# Altium schematic symbol library SCH - MCU - STM32 - ST MICROELECTRONICS STM32G051F8YX WLCSP20.SchLib: 1 symbol
Pins are listed as number, name and electrical type; pins without a type are passive.

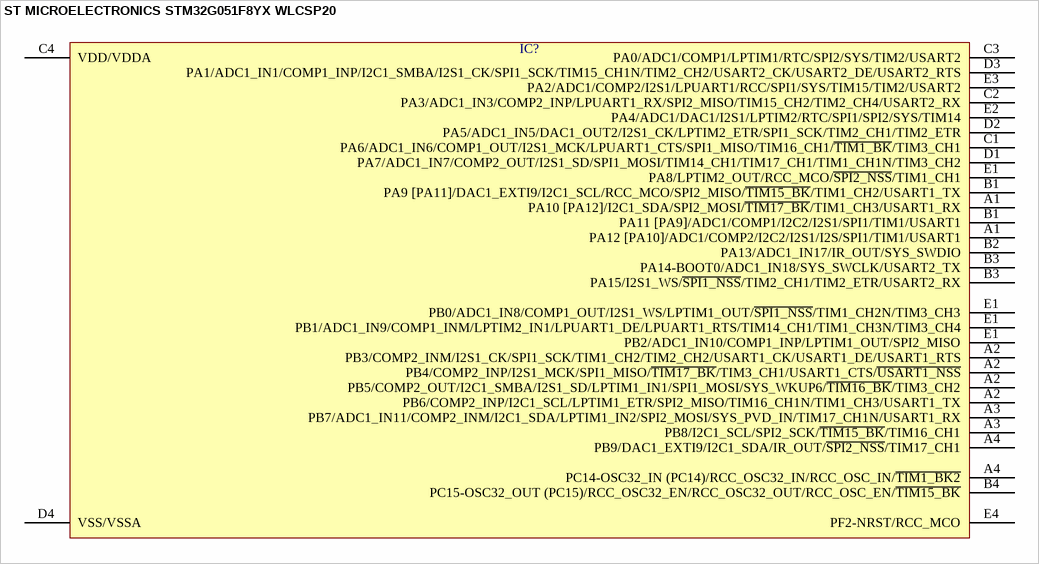
[diagram p0: symbol ST MICROELECTRONICS STM32G051F8YX WLCSP20]

## ST MICROELECTRONICS STM32G051F8YX WLCSP20
designator IC?  (value not drawn)
pins: A1 PA10 [PA12]/I2C1_SDA/SPI2_MOSI/~{TIM17_BK}/TIM1_CH3/USART1_RX, A1 PA12 [PA10]/ADC1/COMP2/I2C2/I2S1/I2S/SPI1/TIM1/USART1, A2 PB3/COMP2_INM/I2S1_CK/SPI1_SCK/TIM1_CH2/TIM2_CH2/USART1_CK/USART1_DE/USART1_RTS, A2 PB4/COMP2_INP/I2S1_MCK/SPI1_MISO/~{TIM17_BK}/TIM3_CH1/USART1_CTS/~{USART1_NSS}, A2 PB5/COMP2_OUT/I2C1_SMBA/I2S1_SD/LPTIM1_IN1/SPI1_MOSI/SYS_WKUP6/~{TIM16_BK}/TIM3_CH2, A2 PB6/COMP2_INP/I2C1_SCL/LPTIM1_ETR/SPI2_MISO/TIM16_CH1N/TIM1_CH3/USART1_TX, A3 PB7/ADC1_IN11/COMP2_INM/I2C1_SDA/LPTIM1_IN2/SPI2_MOSI/SYS_PVD_IN/TIM17_CH1N/USART1_RX, A3 PB8/I2C1_SCL/SPI2_SCK/~{TIM15_BK}/TIM16_CH1, A4 PB9/DAC1_EXTI9/I2C1_SDA/IR_OUT/~{SPI2_NSS}/TIM17_CH1, A4 PC14-OSC32_IN (PC14)/RCC_OSC32_IN/RCC_OSC_IN/~{TIM1_BK2}, B1 PA9 [PA11]/DAC1_EXTI9/I2C1_SCL/RCC_MCO/SPI2_MISO/~{TIM15_BK}/TIM1_CH2/USART1_TX, B1 PA11 [PA9]/ADC1/COMP1/I2C2/I2S1/SPI1/TIM1/USART1, B2 PA13/ADC1_IN17/IR_OUT/SYS_SWDIO, B3 PA14-BOOT0/ADC1_IN18/SYS_SWCLK/USART2_TX, B3 PA15/I2S1_WS/~{SPI1_NSS}/TIM2_CH1/TIM2_ETR/USART2_RX, B4 PC15-OSC32_OUT (PC15)/RCC_OSC32_EN/RCC_OSC32_OUT/RCC_OSC_EN/~{TIM15_BK}, C1 PA6/ADC1_IN6/COMP1_OUT/I2S1_MCK/LPUART1_CTS/SPI1_MISO/TIM16_CH1/~{TIM1_BK}/TIM3_CH1, C2 PA3/ADC1_IN3/COMP2_INP/LPUART1_RX/SPI2_MISO/TIM15_CH2/TIM2_CH4/USART2_RX, C3 PA0/ADC1/COMP1/LPTIM1/RTC/SPI2/SYS/TIM2/USART2, C4 VDD/VDDA, D1 PA7/ADC1_IN7/COMP2_OUT/I2S1_SD/SPI1_MOSI/TIM14_CH1/TIM17_CH1/TIM1_CH1N/TIM3_CH2, D2 PA5/ADC1_IN5/DAC1_OUT2/I2S1_CK/LPTIM2_ETR/SPI1_SCK/TIM2_CH1/TIM2_ETR, D3 PA1/ADC1_IN1/COMP1_INP/I2C1_SMBA/I2S1_CK/SPI1_SCK/TIM15_CH1N/TIM2_CH2/USART2_CK/USART2_DE/USART2_RTS, D4 VSS/VSSA, E1 PA8/LPTIM2_OUT/RCC_MCO/~{SPI2_NSS}/TIM1_CH1, E1 PB0/ADC1_IN8/COMP1_OUT/I2S1_WS/LPTIM1_OUT/~{SPI1_NSS}/TIM1_CH2N/TIM3_CH3, E1 PB1/ADC1_IN9/COMP1_INM/LPTIM2_IN1/LPUART1_DE/LPUART1_RTS/TIM14_CH1/TIM1_CH3N/TIM3_CH4, E1 PB2/ADC1_IN10/COMP1_INP/LPTIM1_OUT/SPI2_MISO, E2 PA4/ADC1/DAC1/I2S1/LPTIM2/RTC/SPI1/SPI2/SYS/TIM14, E3 PA2/ADC1/COMP2/I2S1/LPUART1/RCC/SPI1/SYS/TIM15/TIM2/USART2, E4 PF2-NRST/RCC_MCO